# EAGLE library part SBH11-NBPC-D03 (library con-sullins)
HEADER - Vertical, Shrouded
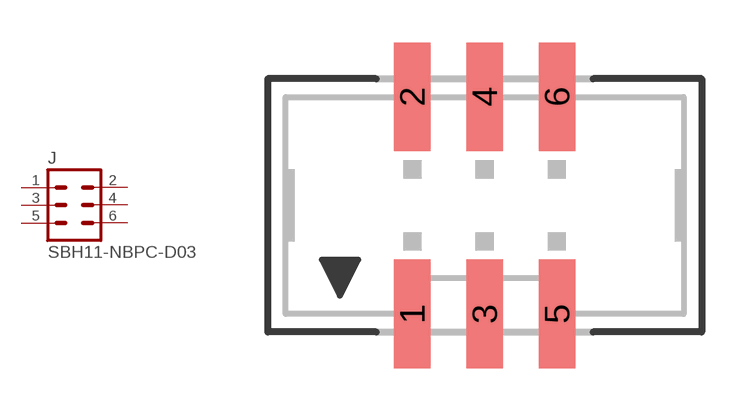
[diagram p18: symbol with the pads of SBH11-NBPC-D03; footprint SBH11-NBPC-D03]

Designator prefix J

## SBH11-NBPC-D03  [SBH11-NBPC-D03]
1  1  pas
2  2  pas
3  3  pas
4  4  pas
5  5  pas
6  6  pas

## Footprint SBH11-NBPC-D03 (pad centres in mm)
SMD HEADER - 0.1", Shrouded, Vertical
smd 1.27 x 3.81: 1 -2.54,-3.81; 2 -2.54,3.81; 3 0,-3.81; 4 0,3.81; 5 2.54,-3.81; 6 2.54,3.81